# Altium schematic symbol library PEC11R-4115F-S0018.SchLib: 1 symbol
Pins are listed as number, name and electrical type; pins without a type are passive.

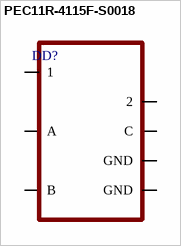
[diagram p0: symbol PEC11R-4115F-S0018]

## PEC11R-4115F-S0018
designator DD?
pins: 1, 2, A, B, C, GND, GND